# EAGLE library part LM3478MM (library AS-2-Extras)
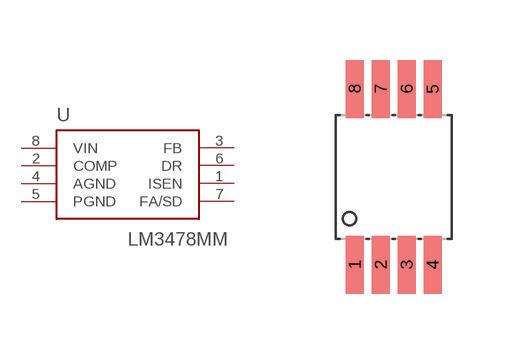
[diagram p6: symbol with the pads of VSSOP8; footprint VSSOP8]

Designator prefix -

## LM3478MM  [VSSOP8]
1  ISEN
2  COMP
3  FB
4  AGND
5  PGND
6  DR
7  FA/SD
8  VIN

## Footprint VSSOP8 (pad centres in mm)
smd 0.45 x 1.45: 1 -0.975,-2.2; 2 -0.325,-2.2; 3 0.325,-2.2; 4 0.975,-2.2; 5 0.975,2.2; 6 0.325,2.2; 7 -0.325,2.2; 8 -0.975,2.2